# Altium integrated library SMD-CRYSTAL-8MHZ-20PF-20PPM_2P-5.0X3.2MM_.IntLib: 1 symbol
Pins are listed as number, name and electrical type; pins without a type are passive.

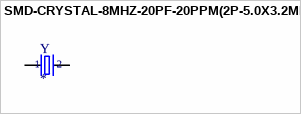
[diagram p0: symbol SMD-CRYSTAL-8MHZ-20PF-20PPM(2P-5.0X3.2MM)]

## SMD-CRYSTAL-8MHZ-20PF-20PPM(2P-5.0X3.2MM)
designator Y
SMD Crystal 8MHz-20pF-20ppm;; MF: Xinhunjing; MP: 5032/4P; Price: None; Availability: Unavailable; Package: None; SnapEDA_Link: https://www.snapeda.com/parts/5032/4P/Xinhunjing/view-part/105660/?ref=snap; Value: *
footprint X2-SMD-5.0X3.2X1.3MM
pins: 1, 2